# Altium schematic symbol library CNCMicaMini.SchLib: 4 symbols
Pins are listed as number, name and electrical type; pins without a type are passive.

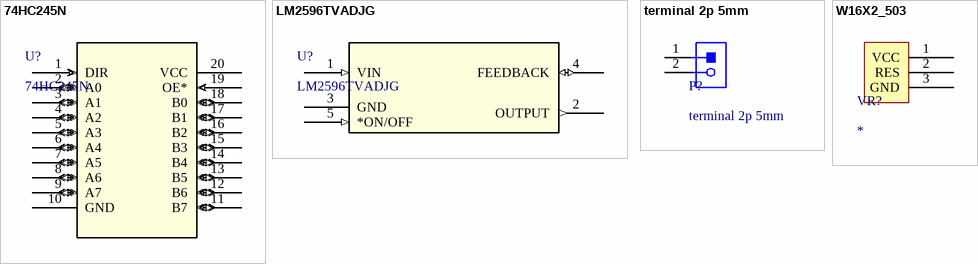
[diagram p0: symbols 74HC245N to W16X2_503]

## 74HC245N
designator U?
No Description Available; Mfr_Name: NXP; Copyright: Copyright (C) 2022 Ultra Librarian. All rights reserved.; Manufacturer_Part_Number: 74HC245N; RefDes: RefDes; Type: DEV
footprint 74HC245N
pins: 1 DIR (in), 2 A0 (io), 3 A1 (io), 4 A2 (io), 5 A3 (io), 6 A4 (io), 7 A5 (io), 8 A6 (io), 9 A7 (io), 10 GND (power), 11 B7 (io), 12 B6 (io), 13 B5 (io), 14 B4 (io), 15 B3 (io), 16 B2 (io), 17 B1 (io), 18 B0 (io), 19 OE* (in), 20 VCC (power)

## LM2596TVADJG
designator U?
No Description Available; Mfr_Name: onsemi; Copyright: Copyright (C) 2022 Ultra Librarian. All rights reserved.; Manufacturer_Part_Number: LM2596TVADJG; RefDes: RefDes; Type: DEV
footprint lm2596
pins: 1 VIN (in), 2 OUTPUT (out), 3 GND (power), 4 FEEDBACK (io), 5 *ON/OFF (in)

## terminal 2p 5mm
designator P?
footprint terminal 2p 5mm
pins: 1, 2 1

## W16X2_503
designator VR?
footprint W16X2_503
pins: 1 VCC, 2 RES, 3 GND